# Altium schematic symbol library PTS125SM73SMTR21M_LFS.SchLib: 1 symbol
Pins are listed as number, name and electrical type; pins without a type are passive.

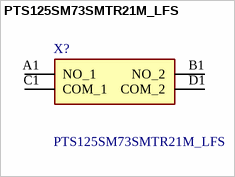
[diagram p0: symbol PTS125SM73SMTR21M_LFS]

## PTS125SM73SMTR21M_LFS
designator X?
Tactile Switch SPST-NO Top Actuated Surface Mount; Manufacturer_Name: C & K COMPONENTS; Manufacturer_Part_Number: PTS125SM73SMTR21M LFS; Geometry.Height: 7.3mm; Mouser Part Number: 611-PTS125M73SMTRLFS; Mouser Price/Stock: https://www.mouser.co.uk/ProductDetail/CK/PTS125SM73SMTR21M-LFS?qs=t7xnP681wgVp4NpaUUvA%252Bw%3D%3D; Datasheet Link: https://www.ckswitches.com/media/1462/pts125.pdf
footprint PTS125SM73SMTR21MLFS
pins: A1 NO_1, B1 NO_2, C1 COM_1, D1 COM_2